# Altium schematic symbol library Bemine-mc60.SCHLIB: 22 symbols
Pins are listed as number, name and electrical type; pins without a type are passive.

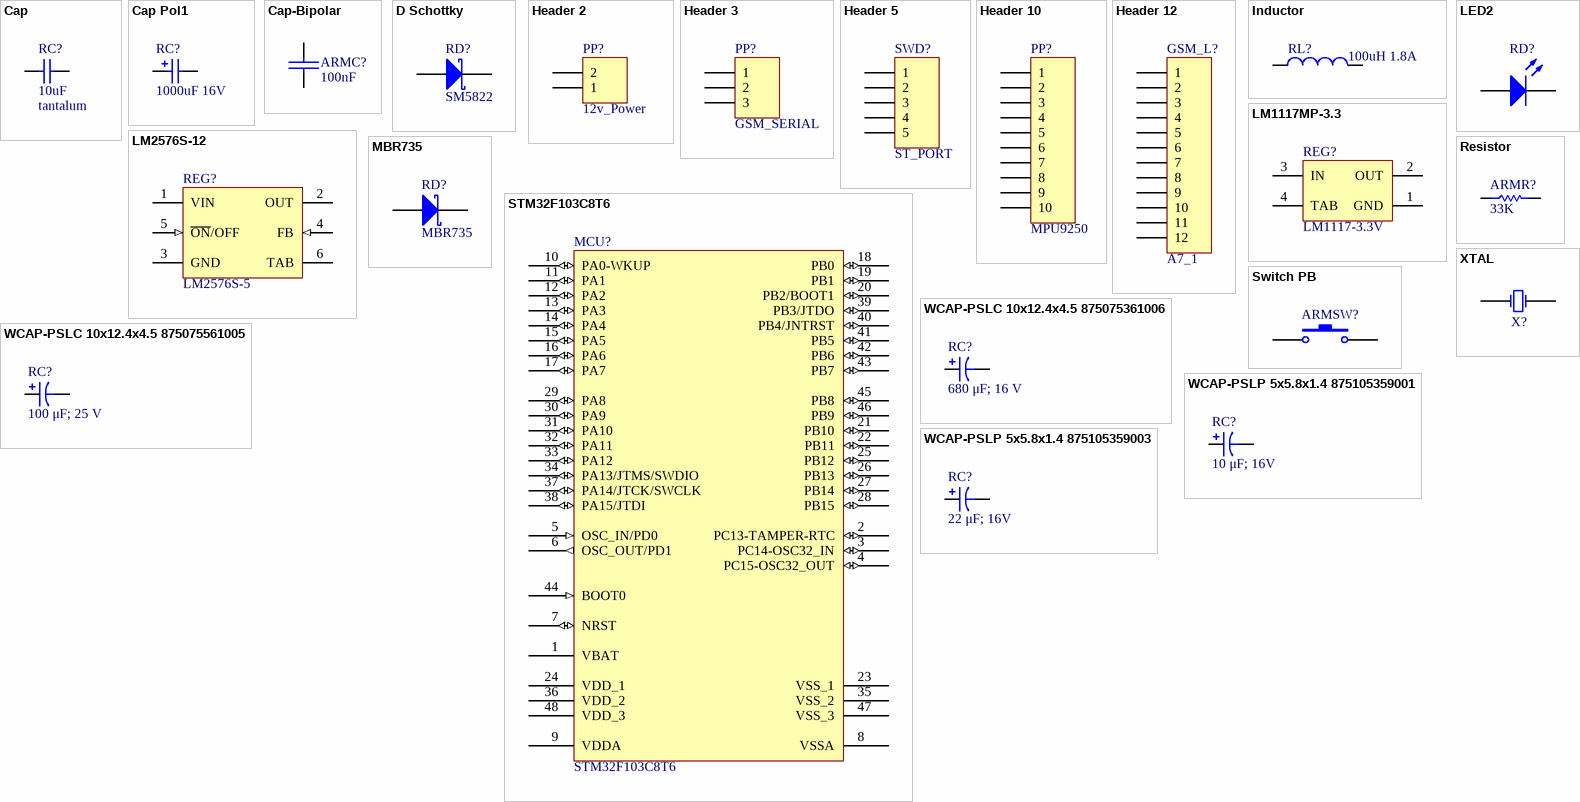
[diagram p0: symbols Cap to XTAL]

## Cap
designator RC?, comment 10uF  TYPE: tantalum
Capacitor; STATE: NOT-AVAILABLE; Published: 8-Jun-2000; LatestRevisionDate: 17-Jul-2002; LatestRevisionNote: Re-released for DXP Platform.; PackageReference: RAD-0.3; Publisher: Altium Limited; PackageDescription: Radial Cap, Thru-Hole; 2 Leads; 0.3 in Pin Spacing
footprint C1206
simulation model CAP (Capacitor)
signal-integrity model Cap
pins: 1, 2

## Cap Pol1
designator RC?, comment 1000uF 16V
Polarized Capacitor (Radial); Value: 100pF; Published: 8-Jun-2000; LatestRevisionDate: 17-Jul-2002; LatestRevisionNote: Re-released for DXP Platform.; PackageReference: RB7.6-15; Publisher: Altium Limited; PackageDescription: Polarized Capacitor (Radial); 2 Leads
footprint CAPR5-4X5 (Capacitor; 2 Leads)
pins: 1, 2
1 alternate drawing of the same symbol

## Cap-Bipolar
designator ARMC?, comment 100nF
Bipolar Capacitor; Voltage: 100V; Designer: Saeid Jorablo; Organazation: ControTec; Adding Date: 1387/12/20; Value: 100nF
footprint Cap 1uF-400v-Right
footprint Cap 1uF-400V-Stand
footprint Cap 10nF
footprint Cap - 100nF
footprint Cap - 100nF - 2
footprint Cap_680nF
footprint CAP 1206 (3216X15L) (Chip Capacitor, 2-Leads, Body 3.2x1.6mm, IPC High Density)
footprint CAPP 1206 (3216X18L) Size A (Chip Capacitor, 2-Leads, Body 3.2x1.6mm, IPC High Density, chip Tantalum)
footprint Cap - 10nF - 630V
footprint Cap - 100nF - 400V
footprint Cap - 220n - 400V - Poly
footprint Cap - 330nF - 400V
footprint SMD_CAP_0603
footprint SMD_CAP_0805
footprint SMD_CAP_1206
footprint C1206
pins: 1 +, 2 -

## D Schottky
designator RD?, comment SM5822
Schottky Diode; Published: 8-Jun-2000; LatestRevisionDate: 17-Jul-2002; LatestRevisionNote: Re-released for DXP Platform.; PackageReference: SMB; Publisher: Altium Limited; PackageDescription: DO-214-AA/SMB; 2 C-Bend Leads; Body 5.3 x 3.6 mm, inc. leads (LxW); Code_JEDEC: DO-214-AA
footprint SMB (DO-214-AA/SMB; 2 C-Bend Leads; Body 5.3 x 3.6 mm, inc. leads (LxW))
pins: 1 A, 2 K

## Header 2
designator PP?, comment 12v_Power
Header, 2-Pin; LatestRevisionDate: 17-Jul-2002; LatestRevisionNote: Re-released for DXP Platform.; Publisher: Altium Limited
footprint phoenix terminal R 2 (2 Right terminals)
signal-integrity model Connector
pins: 1, 2

## Header 3
designator PP?, comment GSM_SERIAL
Header, 3-Pin; LatestRevisionDate: 17-Jul-2002; LatestRevisionNote: Re-released for DXP Platform.; Publisher: Altium Limited
footprint HDR1X3 (Connector; Header; 3 Position)
signal-integrity model Connector
pins: 1, 2, 3

## Header 5
designator SWD?, comment ST_PORT
Header, 5-Pin; LatestRevisionDate: 17-Jul-2002; LatestRevisionNote: Re-released for DXP Platform.; Publisher: Altium Limited
footprint HDR1X5 (Connector; Header; 5 Position)
signal-integrity model Connector
pins: 1, 2, 3, 4, 5

## Header 10
designator PP?, comment MPU9250
Header, 10-Pin; LatestRevisionDate: 17-Jul-2002; LatestRevisionNote: Re-released for DXP Platform.; Publisher: Altium Limited
footprint HDR1X10 (Connector; Header; 10 Position)
signal-integrity model Connector
pins: 1, 2, 3, 4, 5, 6, 7, 8, 9, 10

## Header 12
designator GSM_L?, comment A7_1
Header, 12-Pin; LatestRevisionDate: 17-Jul-2002; LatestRevisionNote: Re-released for DXP Platform.; Publisher: Altium Limited
footprint HDR1X12 (Connector; Header; 12 Position)
signal-integrity model Connector
pins: 1, 2, 3, 4, 5, 6, 7, 8, 9, 10, 11, 12

## Inductor
designator RL?, comment 100uH 1.8A
Inductor; Code_IEC: 1005; Value: 10mH; Published: 8-Jun-2000; LatestRevisionDate: 29-May-2009; LatestRevisionNote: IPC-7351 Footprint Added.; PackageReference: 0402-A; Publisher: Altium Limited; PackageDescription: Chip Inductor; Code_JEITA: 0402
footprint L_POWER
footprint INDC1608L (Chip Inductor, Body 1.6x0.8mm, IPC High Density)
footprint 2029 (Chip Inductor, Body 2.0x1.2mm, IPC High Density)
footprint 0603 (Chip Inductor, Body 0.6x0.3mm, IPC High Density)
footprint INDC3216 (Chip Inductor, Body 3.2x1.6mm, IPC High Density)
footprint INDC4532 (Chip Inductor, Body 4.5x3.2mm, IPC High Density)
simulation model INDUCTOR (Inductor)
signal-integrity model Inductor
pins: 1, 2

## LED2
designator RD?  (value not drawn)
Typical RED, GREEN, YELLOW, AMBER GaAs LED; Published: 8-Jun-2000; LatestRevisionDate: 17-Jul-2002; LatestRevisionNote: Re-released for DXP Platform.; PackageVersion: Feb-2002; PackageReference: 3.2X1.6X1.1; Publisher: Altium Limited; PackageDescription: SM LED; 2 Flat Leads
footprint C1206 (Chip Capacitor, Body 3.2x1.6mm, IPC High Density)
simulation model LED2 (Diode)
pins: 1 A, 2 K

## LM1117MP-3.3
designator REG?, comment LM1117-3.3V
800mA Low-Dropout Linear Regulator, 4-pin SOT-223; PartNumber: LM1117MP-3.3; Manufacturer: National Semiconductor; PackageTopMarking: XYTT*N05A; PowerWise: N; CompType: LDO IC; High-Reliability: Y; DatasheetVersion: Apr-2006; PackageVersion: revB, Apr-2003; PackageReference: MP04A; PackageDescription: Molded SOT-223, 6.50 x 3.56 x 1.6mm Body, 4 Lead, 2.3mm Pitch; RoHS: N; PinCount: 4; Code_JEDEC: TO-261-AA; Code_IPC: SOT223-4; ComponentLink1Description: Manufacturer URL; ComponentLink1URL: http://www.national.com/; ComponentLink2Description: LM1117 Datasheet; ComponentLink2URL: http://www.national.com/ds/LM/LM1117.pdf; ComponentLink3Description: LM1117 Web Page; ComponentLink3URL: http://www.national.com/pf/LM/LM1117.html; ComponentLink4Description: MP04A Package Page; ComponentLink4URL: http://www.national.com/packaging/folders/mp04a.html
footprint MP04A_N
footprint MP04A_L (SOT223, 4-Leads, Body 6.5x3.5mm, Pitch 2.3mm, Lead Span 7mm, IPC High Density)
footprint MP04A_M (SOT223, 4-Leads, Body 6.5x3.5mm, Pitch 2.3mm, Lead Span 7mm, IPC Low Density)
pins: 1 GND (power), 2 OUT (power), 3 IN (power), 4 TAB (power)

## LM2576S-12
designator REG?, comment LM2576S-5
SIMPLE SWITCHER® 3A Step-Down Voltage Regulator, 5-pin TO-263; PartNumber: LM2576S-12; Manufacturer: National Semiconductor; PackageTopMarking: NSUZXYTTE#*LM2576S*-12 P+; PowerWise: N; High-Reliability: Y; DatasheetVersion: Aug-2004; PackageVersion: revD, Apr-2005; PackageReference: TS5B; PackageDescription: TO-263, Molded, .400 x .390 x .180in, 5 Lead, .067in Pitch, Surface Mount; RoHS: N; PinCount: 5; CompType: Switcher; Code_JEDEC: MO-169-AB; ComponentLink1Description: Manufacturer URL; ComponentLink1URL: http://www.national.com/; ComponentLink2Description: LM2576 Datasheet; ComponentLink2URL: http://www.national.com/ds/LM/LM2576.pdf; ComponentLink3Description: LM2576 Web Page; ComponentLink3URL: http://www.national.com/pf/LM/LM2576.html; ComponentLink4Description: TS5B Package Page; ComponentLink4URL: http://www.national.com/packaging/folders/ts5b.html
footprint TS5B_N
footprint TS5B_L (D2-PAK, 6-Leads, Body 8.6x10.2mm, Pitch 1.7mm, Lead Span 14.1mm, IPC High Density)
footprint TS5B_M (D2-PAK, 6-Leads, Body 8.6x10.2mm, Pitch 1.7mm, Lead Span 14.1mm, IPC Low Density)
pins: 1 VIN (power), 2 OUT (power), 3 GND (power), 4 FB (in), 5 ~{ON}/OFF (in), 6 TAB (power)

## MBR735
designator RD?
Schottky Rectifier; Note: Terminal 2 is the TAB and is electrically connected to the cathode; Published: 8-Jun-2000; LatestRevisionDate: 17-Jul-2002; LatestRevisionNote: Re-released for DXP Platform.; DatasheetVersion: Dec-1997; PackageVersion: Feb-1998; PackageReference: TO-220AC; Publisher: Altium Limited; PackageDescription: TO, Thru-Hole, Vertical, Heatsink Mounted; 3 In-Line Leads (1 Absent); Pitch 2.54 mm; ComponentLink1Description: Manufacturer Link; ComponentLink1URL: http://www.irf.com/; ComponentLink2Description: Datasheet; ComponentLink2URL: http://www.irf.com/product-info/datasheets/data/mbr735.pdf
footprint TO-220AC
signal-integrity model MBR735
pins: 1 K, 3 A

## Resistor
designator ARMR?, comment 33K
Resistor; Value: 33K
simulation model Model Name (Model Description)
footprint Res-(1/8)
footprint Res-(1/4)
footprint Res-(1/2)
footprint Res-(1/1)
footprint Res-(2/1)
footprint RES 0201 (0603X03L) (Chip Resistor, 2-Leads, Body 0.6x0.3mm, IPC High Density (0.05 W))
footprint RES 0402 (1005X04L) (Chip Resistor, 2-Leads, Body 1.0x0.5mm, IPC High Density _ (0.031/0.063 W))
footprint RES 0603 (1608X06L) (Chip Resistor, 2-Leads, Body 1.6x0.8mm, IPC High Density _ (0.063W))
footprint C1206 (Chip Capacitor, Body 3.2x1.6mm, IPC High Density)
footprint RES 1206 (3216X08L) (Chip Resistor, 2-Leads, Body 3.2x1.6mm, IPC High Density _ (0.125 W))
footprint RES 1210 (3226X07L) (Chip Resistor, 2-Leads, Body 3.2x2.6mm, IPC High Density _ (0.250 W))
footprint RES 1217 (3042X09L) (Chip Resistor, 2-Leads, Body 3.0x4.2mm, IPC High Density _ (0.250 W))
footprint RES 2010 (5026X08L) (Chip Resistor, 2-Leads, Body 5.0x2.6mm, IPC High Density _ (0.250 W))
footprint RES 2020 (5151X09L) (Chip Resistor, 2-Leads, Body 5.1x5.1mm, IPC High Density _ (0.5 W))
footprint RES 2045 (50115X09L) (Chip Resistor, 2-Leads, Body 5.0x11.5mm, IPC High Density _ (1.0 W))
footprint RES 2512 (6331X07L) (Chip Resistor, 2-Leads, Body 6.3x3.1mm, IPC High Density _ (0.500 W))
footprint Res-(1/4)-Stand
footprint Res-(5/1)-Stand
footprint SMD_RES_0603 (Chip Resistor, 2-Leads, Body 1.6x0.8mm, IPC High Density _ (0.063W))
footprint SMD_RES_0805 (Chip Resistor, 2-Leads, Body 2.0x1.3mm, IPC High Density _ (0.100 W))
footprint SMD_RES_1206 (Chip Resistor, 2-Leads, Body 3.2x1.6mm, IPC High Density _ (0.125 W))
pins: 1, 2

## STM32F103C8T6
designator MCU?
STM32 ARM-based 32-bit MCU with 64 Kbytes Flash, 48-pin LQFP, Industrial Temperature; Published: 30-May-2008; DatasheetVersion: rev6, Mar-2008; PackageVersion: Mar-2008; PackageReference: LQFP48; Publisher: Altium Limited; PackageDescription: 48-Pin Low-Profile Quad Flat Pack, 7 x 7 mm Body, 0.5 mm Pitch (LQFP48); ComponentLink1Description: Manufacturer Link; ComponentLink1URL: www.st.com/stm32; ComponentLink2Description: Datasheet; ComponentLink2URL: http://www.st.com/stonline/products/literature/ds/13587.pdf
footprint LQFP48_N
footprint LQFP48_L (Thin QFP, 48-Leads, Body 7x7mm, Pitch 0.5mm, IPC High Density)
footprint LQFP48_M (Thin QFP, 48-Leads, Body 7x7mm, Pitch 0.5mm, IPC Low Density)
pins: 1 VBAT (power), 2 PC13-TAMPER-RTC (io), 3 PC14-OSC32_IN (io), 4 PC15-OSC32_OUT (io), 5 OSC_IN/PD0 (in), 6 OSC_OUT/PD1 (out), 7 NRST (io), 8 VSSA (power), 9 VDDA (power), 10 PA0-WKUP (io), 11 PA1 (io), 12 PA2 (io), 13 PA3 (io), 14 PA4 (io), 15 PA5 (io), 16 PA6 (io), 17 PA7 (io), 18 PB0 (io), 19 PB1 (io), 20 PB2/BOOT1 (io), 21 PB10 (io), 22 PB11 (io), 23 VSS_1 (power), 24 VDD_1 (power), 25 PB12 (io), 26 PB13 (io), 27 PB14 (io), 28 PB15 (io), 29 PA8 (io), 30 PA9 (io), 31 PA10 (io), 32 PA11 (io), 33 PA12 (io), 34 PA13/JTMS/SWDIO (io), 35 VSS_2 (power), 36 VDD_2 (power), 37 PA14/JTCK/SWCLK (io), 38 PA15/JTDI (io), 39 PB3/JTDO (io), 40 PB4/JNTRST (io), 41 PB5 (io), 42 PB6 (io), 43 PB7 (io), 44 BOOT0 (in), 45 PB8 (io), 46 PB9 (io), 47 VSS_3 (power), 48 VDD_3 (power)

## Switch PB
designator ARMSW?  (value not drawn)
Push Button Switch
footprint Switch - Push to On
footprint SW-PB
pins: 1, 2

## WCAP-PSLC 10x12.4x4.5 875075361006
designator RC?, comment 680 μF; 16 V
WCAP-PSLC Aluminum Polymer Capacitors , 680 μF; + / - 20%; 16 V , 10 x 12,4; Manufacturer: Wurth Elektronik; partNo: 875075361006; E-mail: libraries@we-online.com; Capacitance: 680 μF; Characteristics: Aluminum Polymer Capacitors; Recommended soldering: Reflow; Operating temperature: –55 °C to +105 °C; Large capacitance SMD product series; Very low ESR at high frequency range; High permissible ripple current; Long life and high reliability; Load life: 2000 h @ +105 °C; ComponentLink1Description: Manufacturer; ComponentLink1URL: http://www.we-online.com; ComponentLink2Description: Datasheet; ComponentLink2URL: http://katalog.we-online.de/pbs/datasheet/875075361006.pdf; Created by: Karrer Zheng; Created Date: 6/8/2015; Application: Low voltage port filtering, appplid to high-end switching power supply, PC(desktop,laptop ),industrial computer, VGA card, server power, charger, TV, digital set-top box,DC-DC power module, game machine etc which consume large current with high speed circuit.
footprint WCAP-PSLC 10x12.4x4.5
pins: 1, 2

## WCAP-PSLC 10x12.4x4.5 875075561005
designator RC?, comment 100 μF; 25 V
WCAP-PSLC Aluminum Polymer Capacitors , 100 μF; + / - 20%; 25 V , 10 x 12,4; Manufacturer: Wurth Elektronik; partNo: 875075561005; E-mail: libraries@we-online.com; Capacitance: 100 μF; Characteristics: Aluminum Polymer Capacitors; Recommended soldering: Reflow; Operating temperature: –55 °C to +105 °C; Large capacitance SMD product series; Very low ESR at high frequency range; High permissible ripple current; Long life and high reliability; Load life: 2000 h @ +105 °C; ComponentLink1Description: Manufacturer; ComponentLink1URL: http://www.we-online.com; ComponentLink2Description: Datasheet; ComponentLink2URL: http://katalog.we-online.de/pbs/datasheet/875075561005.pdf; Created by: Karrer Zheng; Created Date: 6/8/2015; Application: Low voltage port filtering, appplid to high-end switching power supply, PC(desktop,laptop ),industrial computer, VGA card, server power, charger, TV, digital set-top box,DC-DC power module, game machine etc which consume large current with high speed circuit.
footprint WCAP-PSLC 10x12.4x4.5
pins: 1, 2

## WCAP-PSLP 5x5.8x1.4 875105359001
designator RC?, comment 10 μF; 16V
WCAP-PSLP Aluminum Polymer Capacitors , 10 μF; + / - 20%; 16 V , 5 x 5,8; Manufacturer: Wurth Elektronik; partNo: 875105359001; E-mail: libraries@we-online.com; Capacitance: 10 μF; Characteristics: Aluminum Polymer Capacitors;Recommended soldering: Reflow;Operating temperature: –55 °C to +105 °C;Low profile SMD product series;Low ESR at high frequency range;High permissible ripple current;Load life: 2000 h @ +105 °C; ComponentLink1Description: Manufacturer; ComponentLink1URL: http://www.we-online.com; ComponentLink2Description: Datasheet; ComponentLink2URL: http://katalog.we-online.de/pbs/datasheet/875105359001.pdf; Created by: Karrer Zheng; Created Date: 5/13/2015; Application: Low voltage port filtering, appplid to high-end switching power supply, PC(desktop,laptop ),industrial computer, VGA card, server power, charger, TV, digital set-top box,DC-DC power module, game machine etc which consume large current with high speed circuit.
footprint WCAP-PSLP 5x5.8x1.4
pins: 1, 2

## WCAP-PSLP 5x5.8x1.4 875105359003
designator RC?, comment 22 μF; 16V
WCAP-PSLP Aluminum Polymer Capacitors , 22 μF; + / - 20%; 16 V , 5 x 5,8; Manufacturer: Wurth Elektronik; partNo: 875105359003; E-mail: libraries@we-online.com; Capacitance: 22 μF; Characteristics: Aluminum Polymer Capacitors;Recommended soldering: Reflow;Operating temperature: –55 °C to +105 °C;Low profile SMD product series;Low ESR at high frequency range;High permissible ripple current;Load life: 2000 h @ +105 °C; ComponentLink1Description: Manufacturer; ComponentLink1URL: http://www.we-online.com; ComponentLink2Description: Datasheet; ComponentLink2URL: http://katalog.we-online.de/pbs/datasheet/875105359003.pdf; Created by: Karrer Zheng; Created Date: 5/13/2015; Application: Low voltage port filtering, appplid to high-end switching power supply, PC(desktop,laptop ),industrial computer, VGA card, server power, charger, TV, digital set-top box,DC-DC power module, game machine etc which consume large current with high speed circuit.
footprint WCAP-PSLP 5x5.8x1.4
pins: 1, 2

## XTAL
designator X?, comment 8MHz  (value not drawn)
XTAL Crystal; Company: E.P.I.L; Design Date: 11/04/2011
footprint Crystal SMD
footprint XTAL
footprint XTAL Small
footprint XTAL RTC
pins: 1 OSC1, 2 OSC2